# Altium schematic symbol library lightLinkSchLib.SchLib: 1 symbol
Pins are listed as number, name and electrical type; pins without a type are passive.

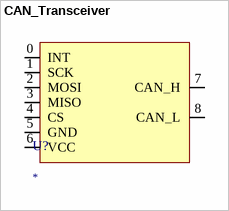
[diagram p0: symbol CAN_Transceiver]

## CAN_Transceiver
designator U?
Footprint for existing SPI transceiver
pins: 0 INT, 1 SCK, 2 MOSI, 3 MISO, 4 CS, 5 GND, 6 VCC, 7 CAN_H, 8 CAN_L